# Altium schematic symbol library WR-WTB_1.25mm.SchLib: 46 symbols
Pins are listed as number, name and electrical type; pins without a type are passive.

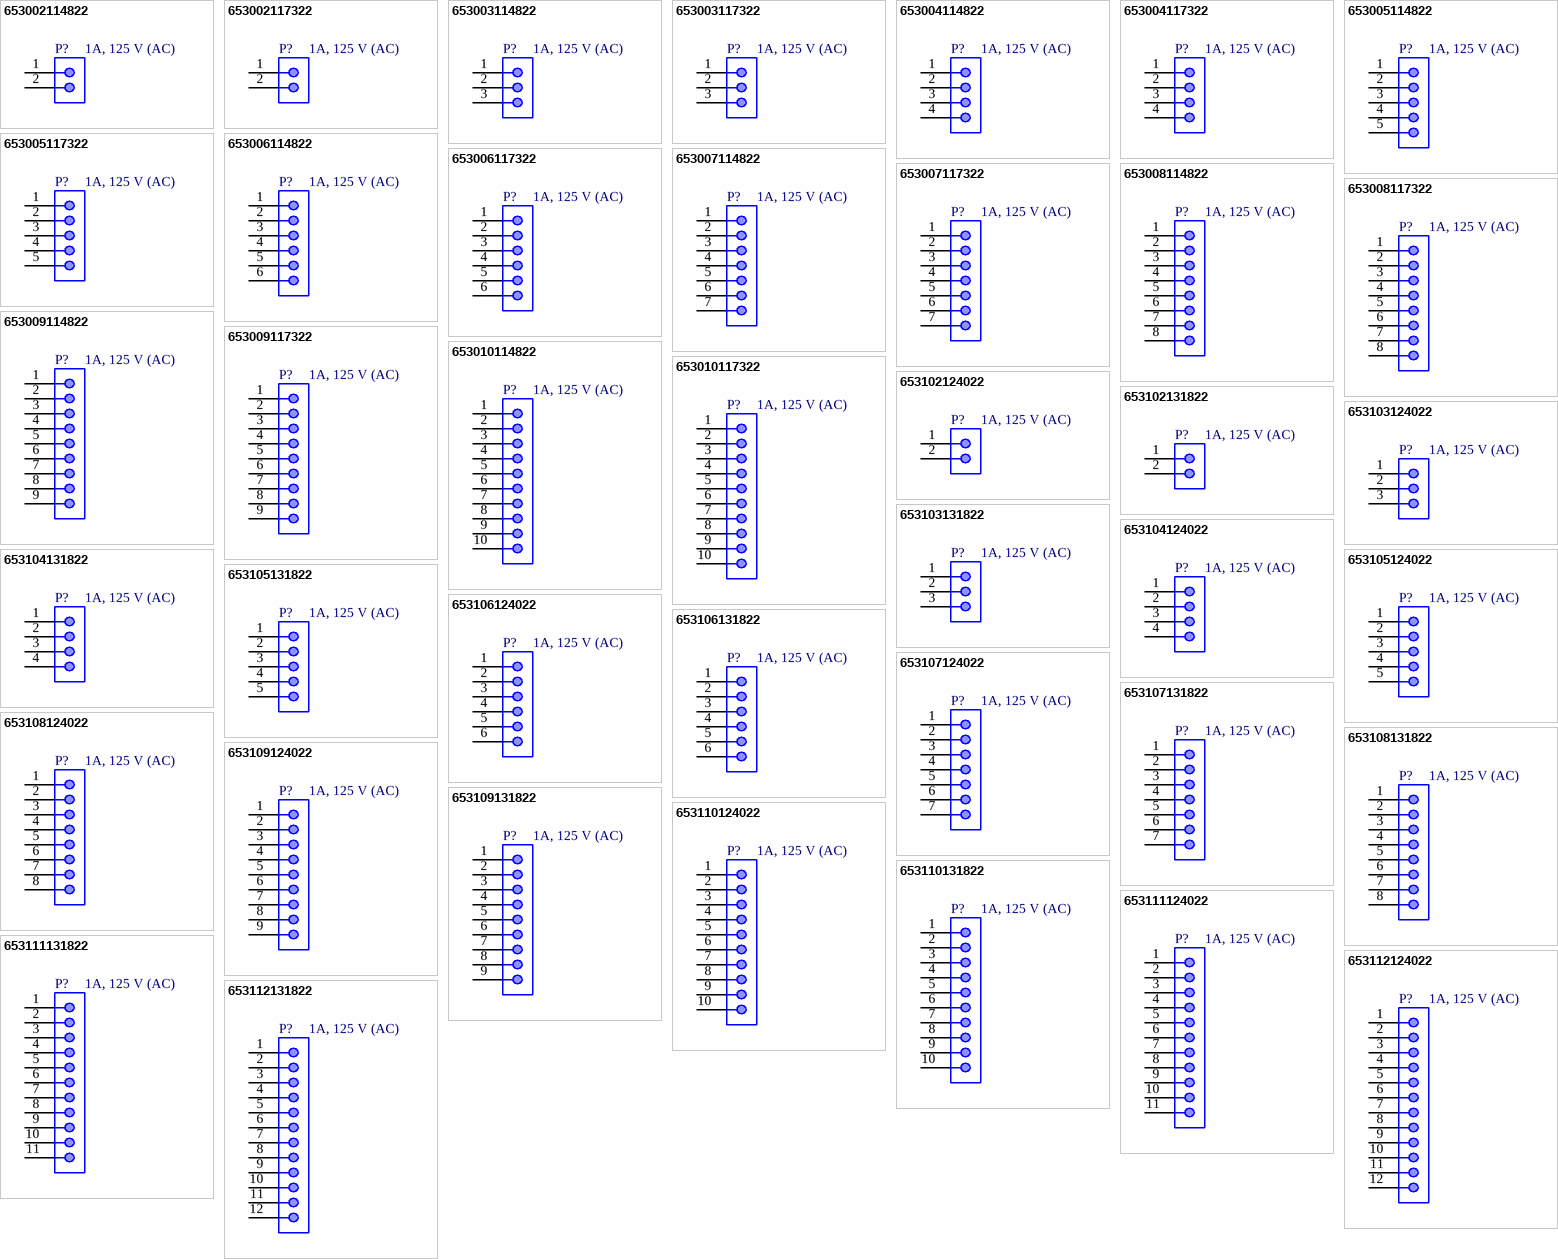
[diagram p0: symbols 653002114822 to 653112131822]

## 653002114822
designator P?, comment 1A, 125 V (AC)
WR-WTB THT Male Vertical Shrouded Header, pitch 1.25mm, 2p; Manufacturer: Wurth Elektronik; Manufacturer Part Number: 653002114822; Pin Number: 2; Contact Resistance: 20mOhm; Withstanding Voltage: 250VAC; Working Voltage: 125VAC; ComponentLink1Description: Datasheet; ComponentLink1URL: https://www.we-online.com/catalog/datasheet/653002114822.pdf; Pitch: 1.25mm; Packaging: Bag; Gender: Male; Type: Vertical; Rated Current: 1A; Supplier 1 URL: N/A; Supplier 2 URL: N/A; Supplier 3 URL: N/A; Value: 1A, 125 V (AC); LCSC Part #: N/A; Mount: THT; Operating Temperature Max: + 85 C; Operating Temperature Min: - 40 C; Package / Case: 2; Supplier 1: Mouser; Supplier 1 Part Number: N/A; Supplier 2: Digi-Key; Supplier 2 Part Number: N/A; Supplier 3: thegioiic; Supplier 3 Part Number: N/A
footprint 653002114822
pins: 1, 2

## 653002117322
designator P?, comment 1A, 125 V (AC)
WR-WTB THT Male Horizontal Shrouded Header, pitch 1.25mm, 2p; Manufacturer: Wurth Elektronik; Manufacturer Part Number: 653002117322; Pin Number: 2; Contact Resistance: 20mOhm; Withstanding Voltage: 250VAC; Working Voltage: 125VAC; ComponentLink1Description: Datasheet; ComponentLink1URL: https://www.we-online.com/catalog/datasheet/653002117322.pdf; Pitch: 1.25mm; Packaging: Tube; Gender: Male; Type: Horizontal; Rated Current: 1A; Supplier 1 URL: N/A; Supplier 2 URL: N/A; Supplier 3 URL: N/A; Value: 1A, 125 V (AC); LCSC Part #: N/A; Mount: THT; Operating Temperature Max: + 85 C; Operating Temperature Min: - 40 C; Package / Case: 2; Supplier 1: Mouser; Supplier 1 Part Number: N/A; Supplier 2: Digi-Key; Supplier 2 Part Number: N/A; Supplier 3: thegioiic; Supplier 3 Part Number: N/A
footprint 653002117322
pins: 1, 2

## 653003114822
designator P?, comment 1A, 125 V (AC)
WR-WTB THT Male Vertical Shrouded Header, pitch 1.25mm, 3p; Manufacturer: Wurth Elektronik; Manufacturer Part Number: 653003114822; Pin Number: 3; Contact Resistance: 20mOhm; Withstanding Voltage: 250VAC; Working Voltage: 125VAC; ComponentLink1Description: Datasheet; ComponentLink1URL: https://www.we-online.com/catalog/datasheet/653003114822.pdf; Pitch: 1.25mm; Packaging: Bag; Gender: Male; Type: Vertical; Rated Current: 1A; Supplier 1 URL: N/A; Supplier 2 URL: N/A; Supplier 3 URL: N/A; Value: 1A, 125 V (AC); LCSC Part #: N/A; Mount: THT; Operating Temperature Max: + 85 C; Operating Temperature Min: - 40 C; Package / Case: 3; Supplier 1: Mouser; Supplier 1 Part Number: N/A; Supplier 2: Digi-Key; Supplier 2 Part Number: N/A; Supplier 3: thegioiic; Supplier 3 Part Number: N/A
footprint 653003114822
pins: 1, 2, 3

## 653003117322
designator P?, comment 1A, 125 V (AC)
WR-WTB THT Male Horizontal Shrouded Header, pitch 1.25mm, 3p; Manufacturer: Wurth Elektronik; Manufacturer Part Number: 653003117322; Pin Number: 3; Contact Resistance: 20mOhm; Withstanding Voltage: 250VAC; Working Voltage: 125VAC; ComponentLink1Description: Datasheet; ComponentLink1URL: https://www.we-online.com/catalog/datasheet/653003117322.pdf; Pitch: 1.25mm; Packaging: Tube; Gender: Male; Type: Horizontal; Rated Current: 1A; Supplier 1 URL: N/A; Supplier 2 URL: N/A; Supplier 3 URL: N/A; Value: 1A, 125 V (AC); LCSC Part #: N/A; Mount: THT; Operating Temperature Max: + 85 C; Operating Temperature Min: - 40 C; Package / Case: 3; Supplier 1: Mouser; Supplier 1 Part Number: N/A; Supplier 2: Digi-Key; Supplier 2 Part Number: N/A; Supplier 3: thegioiic; Supplier 3 Part Number: N/A
footprint 653003117322
pins: 1, 2, 3

## 653004114822
designator P?, comment 1A, 125 V (AC)
WR-WTB THT Male Vertical Shrouded Header, pitch 1.25mm, 4p; Manufacturer: Wurth Elektronik; Manufacturer Part Number: 653004114822; Pin Number: 4; Contact Resistance: 20mOhm; Withstanding Voltage: 250VAC; Working Voltage: 125VAC; ComponentLink1Description: Datasheet; ComponentLink1URL: https://www.we-online.com/catalog/datasheet/653004114822.pdf; Pitch: 1.25mm; Packaging: Tube; Gender: Male; Type: Vertical; Rated Current: 1A; Supplier 1 URL: N/A; Supplier 2 URL: N/A; Supplier 3 URL: N/A; Value: 1A, 125 V (AC); LCSC Part #: N/A; Mount: THT; Operating Temperature Max: + 85 C; Operating Temperature Min: - 40 C; Package / Case: 4; Supplier 1: Mouser; Supplier 1 Part Number: N/A; Supplier 2: Digi-Key; Supplier 2 Part Number: N/A; Supplier 3: thegioiic; Supplier 3 Part Number: N/A
footprint 653004114822
pins: 1, 2, 3, 4

## 653004117322
designator P?, comment 1A, 125 V (AC)
WR-WTB THT Male Horizontal Shrouded Header, pitch 1.25mm, 4p; Manufacturer: Wurth Elektronik; Manufacturer Part Number: 653004117322; Pin Number: 4; Contact Resistance: 20mOhm; Withstanding Voltage: 250VAC; Working Voltage: 125VAC; ComponentLink1Description: Datasheet; ComponentLink1URL: https://www.we-online.com/catalog/datasheet/653004117322.pdf; Pitch: 1.25mm; Packaging: Tube; Gender: Male; Type: Horizontal; Rated Current: 1A; Supplier 1 URL: N/A; Supplier 2 URL: N/A; Supplier 3 URL: N/A; Value: 1A, 125 V (AC); LCSC Part #: N/A; Mount: THT; Operating Temperature Max: + 85 C; Operating Temperature Min: - 40 C; Package / Case: 4; Supplier 1: Mouser; Supplier 1 Part Number: N/A; Supplier 2: Digi-Key; Supplier 2 Part Number: N/A; Supplier 3: thegioiic; Supplier 3 Part Number: N/A
footprint 653004117322
pins: 1, 2, 3, 4

## 653005114822
designator P?, comment 1A, 125 V (AC)
WR-WTB THT Male Vertical Shrouded Header, pitch 1.25mm, 5p; Manufacturer: Wurth Elektronik; Manufacturer Part Number: 653005114822; Pin Number: 5; Contact Resistance: 20mOhm; Withstanding Voltage: 250VAC; Working Voltage: 125VAC; ComponentLink1Description: Datasheet; ComponentLink1URL: https://www.we-online.com/catalog/datasheet/653005114822.pdf; Pitch: 1.25mm; Packaging: Tube; Gender: Male; Type: Vertical; Rated Current: 1A; Supplier 1 URL: N/A; Supplier 2 URL: N/A; Supplier 3 URL: N/A; Value: 1A, 125 V (AC); LCSC Part #: N/A; Mount: THT; Operating Temperature Max: + 85 C; Operating Temperature Min: - 40 C; Package / Case: 5; Supplier 1: Mouser; Supplier 1 Part Number: N/A; Supplier 2: Digi-Key; Supplier 2 Part Number: N/A; Supplier 3: thegioiic; Supplier 3 Part Number: N/A
footprint 653005114822
pins: 1, 2, 3, 4, 5

## 653005117322
designator P?, comment 1A, 125 V (AC)
WR-WTB THT Male Horizontal Shrouded Header, pitch 1.25mm, 5p; Manufacturer: Wurth Elektronik; Manufacturer Part Number: 653005117322; Pin Number: 5; Contact Resistance: 20mOhm; Withstanding Voltage: 250VAC; Working Voltage: 125VAC; ComponentLink1Description: Datasheet; ComponentLink1URL: https://www.we-online.com/catalog/datasheet/653005117322.pdf; Pitch: 1.25mm; Packaging: Tube; Gender: Male; Type: Horizontal; Rated Current: 1A; Supplier 1 URL: N/A; Supplier 2 URL: N/A; Supplier 3 URL: N/A; Value: 1A, 125 V (AC); LCSC Part #: N/A; Mount: THT; Operating Temperature Max: + 85 C; Operating Temperature Min: - 40 C; Package / Case: 5; Supplier 1: Mouser; Supplier 1 Part Number: N/A; Supplier 2: Digi-Key; Supplier 2 Part Number: N/A; Supplier 3: thegioiic; Supplier 3 Part Number: N/A
footprint 653005117322
pins: 1, 2, 3, 4, 5

## 653006114822
designator P?, comment 1A, 125 V (AC)
WR-WTB THT Male Vertical Shrouded Header, pitch 1.25mm, 6p; Manufacturer: Wurth Elektronik; Manufacturer Part Number: 653006114822; Pin Number: 6; Contact Resistance: 20mOhm; Withstanding Voltage: 250VAC; Working Voltage: 125VAC; ComponentLink1Description: Datasheet; ComponentLink1URL: https://www.we-online.com/catalog/datasheet/653006114822.pdf; Pitch: 1.25mm; Packaging: Tube; Gender: Male; Type: Vertical; Rated Current: 1A; Supplier 1 URL: N/A; Supplier 2 URL: N/A; Supplier 3 URL: N/A; Value: 1A, 125 V (AC); LCSC Part #: N/A; Mount: THT; Operating Temperature Max: + 85 C; Operating Temperature Min: - 40 C; Package / Case: 6; Supplier 1: Mouser; Supplier 1 Part Number: N/A; Supplier 2: Digi-Key; Supplier 2 Part Number: N/A; Supplier 3: thegioiic; Supplier 3 Part Number: N/A
footprint 653006114822
pins: 1, 2, 3, 4, 5, 6

## 653006117322
designator P?, comment 1A, 125 V (AC)
WR-WTB THT Male Horizontal Shrouded Header, pitch 1.25mm, 6p; Manufacturer: Wurth Elektronik; Manufacturer Part Number: 653006117322; Pin Number: 6; Contact Resistance: 20mOhm; Withstanding Voltage: 250VAC; Working Voltage: 125VAC; ComponentLink1Description: Datasheet; ComponentLink1URL: https://www.we-online.com/catalog/datasheet/653006117322.pdf; Pitch: 1.25mm; Packaging: Tube; Gender: Male; Type: Horizontal; Rated Current: 1A; Supplier 1 URL: N/A; Supplier 2 URL: N/A; Supplier 3 URL: N/A; Value: 1A, 125 V (AC); LCSC Part #: N/A; Mount: THT; Operating Temperature Max: + 85 C; Operating Temperature Min: - 40 C; Package / Case: 6; Supplier 1: Mouser; Supplier 1 Part Number: N/A; Supplier 2: Digi-Key; Supplier 2 Part Number: N/A; Supplier 3: thegioiic; Supplier 3 Part Number: N/A
footprint 653006117322
pins: 1, 2, 3, 4, 5, 6

## 653007114822
designator P?, comment 1A, 125 V (AC)
WR-WTB THT Male Vertical Shrouded Header, pitch 1.25mm, 7p; Manufacturer: Wurth Elektronik; Manufacturer Part Number: 653007114822; Pin Number: 7; Contact Resistance: 20mOhm; Withstanding Voltage: 250VAC; Working Voltage: 125VAC; ComponentLink1Description: Datasheet; ComponentLink1URL: https://www.we-online.com/catalog/datasheet/653007114822.pdf; Pitch: 1.25mm; Packaging: Tube; Gender: Male; Type: Vertical; Rated Current: 1A; Supplier 1 URL: N/A; Supplier 2 URL: N/A; Supplier 3 URL: N/A; Value: 1A, 125 V (AC); LCSC Part #: N/A; Mount: THT; Operating Temperature Max: + 85 C; Operating Temperature Min: - 40 C; Package / Case: 7; Supplier 1: Mouser; Supplier 1 Part Number: N/A; Supplier 2: Digi-Key; Supplier 2 Part Number: N/A; Supplier 3: thegioiic; Supplier 3 Part Number: N/A
footprint 653007114822
pins: 1, 2, 3, 4, 5, 6, 7

## 653007117322
designator P?, comment 1A, 125 V (AC)
WR-WTB THT Male Horizontal Shrouded Header, pitch 1.25mm, 7p; Manufacturer: Wurth Elektronik; Manufacturer Part Number: 653007117322; Pin Number: 7; Contact Resistance: 20mOhm; Withstanding Voltage: 250VAC; Working Voltage: 125VAC; ComponentLink1Description: Datasheet; ComponentLink1URL: https://www.we-online.com/catalog/datasheet/653007117322.pdf; Pitch: 1.25mm; Packaging: Tube; Gender: Male; Type: Horizontal; Rated Current: 1A; Supplier 1 URL: N/A; Supplier 2 URL: N/A; Supplier 3 URL: N/A; Value: 1A, 125 V (AC); LCSC Part #: N/A; Mount: THT; Operating Temperature Max: + 85 C; Operating Temperature Min: - 40 C; Package / Case: 7; Supplier 1: Mouser; Supplier 1 Part Number: N/A; Supplier 2: Digi-Key; Supplier 2 Part Number: N/A; Supplier 3: thegioiic; Supplier 3 Part Number: N/A
footprint 653007117322
pins: 1, 2, 3, 4, 5, 6, 7

## 653008114822
designator P?, comment 1A, 125 V (AC)
WR-WTB THT Male Vertical Shrouded Header, pitch 1.25mm, 8p; Manufacturer: Wurth Elektronik; Manufacturer Part Number: 653008114822; Pin Number: 8; Contact Resistance: 20mOhm; Withstanding Voltage: 250VAC; Working Voltage: 125VAC; ComponentLink1Description: Datasheet; ComponentLink1URL: https://www.we-online.com/catalog/datasheet/653008114822.pdf; Pitch: 1.25mm; Packaging: Tube; Gender: Male; Type: Vertical; Rated Current: 1A; Supplier 1 URL: N/A; Supplier 2 URL: N/A; Supplier 3 URL: N/A; Value: 1A, 125 V (AC); LCSC Part #: N/A; Mount: THT; Operating Temperature Max: + 85 C; Operating Temperature Min: - 40 C; Package / Case: 8; Supplier 1: Mouser; Supplier 1 Part Number: N/A; Supplier 2: Digi-Key; Supplier 2 Part Number: N/A; Supplier 3: thegioiic; Supplier 3 Part Number: N/A
footprint 653008114822
pins: 1, 2, 3, 4, 5, 6, 7, 8

## 653008117322
designator P?, comment 1A, 125 V (AC)
WR-WTB THT Male Horizontal Shrouded Header, pitch 1.25mm, 8p; Manufacturer: Wurth Elektronik; Manufacturer Part Number: 653008117322; Pin Number: 8; Contact Resistance: 20mOhm; Withstanding Voltage: 250VAC; Working Voltage: 125VAC; ComponentLink1Description: Datasheet; ComponentLink1URL: https://www.we-online.com/catalog/datasheet/653008117322.pdf; Pitch: 1.25mm; Packaging: Tube; Gender: Male; Type: Horizontal; Rated Current: 1A; Supplier 1 URL: N/A; Supplier 2 URL: N/A; Supplier 3 URL: N/A; Value: 1A, 125 V (AC); LCSC Part #: N/A; Mount: THT; Operating Temperature Max: + 85 C; Operating Temperature Min: - 40 C; Package / Case: 8; Supplier 1: Mouser; Supplier 1 Part Number: N/A; Supplier 2: Digi-Key; Supplier 2 Part Number: N/A; Supplier 3: thegioiic; Supplier 3 Part Number: N/A
footprint 653008117322
pins: 1, 2, 3, 4, 5, 6, 7, 8

## 653009114822
designator P?, comment 1A, 125 V (AC)
WR-WTB THT Male Vertical Shrouded Header, pitch 1.25mm, 9p; Manufacturer: Wurth Elektronik; Manufacturer Part Number: 653009114822; Pin Number: 9; Contact Resistance: 20mOhm; Withstanding Voltage: 250VAC; Working Voltage: 125VAC; ComponentLink1Description: Datasheet; ComponentLink1URL: https://www.we-online.com/catalog/datasheet/653009114822.pdf; Pitch: 1.25mm; Packaging: Tube; Gender: Male; Type: Vertical; Rated Current: 1A; Supplier 1 URL: N/A; Supplier 2 URL: N/A; Supplier 3 URL: N/A; Value: 1A, 125 V (AC); LCSC Part #: N/A; Mount: THT; Operating Temperature Max: + 85 C; Operating Temperature Min: - 40 C; Package / Case: 9; Supplier 1: Mouser; Supplier 1 Part Number: N/A; Supplier 2: Digi-Key; Supplier 2 Part Number: N/A; Supplier 3: thegioiic; Supplier 3 Part Number: N/A
footprint 653009114822
pins: 1, 2, 3, 4, 5, 6, 7, 8, 9

## 653009117322
designator P?, comment 1A, 125 V (AC)
WR-WTB THT Male Horizontal Shrouded Header, pitch 1.25mm, 9p; Manufacturer: Wurth Elektronik; Manufacturer Part Number: 653009117322; Pin Number: 9; Contact Resistance: 20mOhm; Withstanding Voltage: 250VAC; Working Voltage: 125VAC; ComponentLink1Description: Datasheet; ComponentLink1URL: https://www.we-online.com/catalog/datasheet/653009117322.pdf; Pitch: 1.25mm; Packaging: Tube; Gender: Male; Type: Horizontal; Rated Current: 1A; Supplier 1 URL: N/A; Supplier 2 URL: N/A; Supplier 3 URL: N/A; Value: 1A, 125 V (AC); LCSC Part #: N/A; Mount: THT; Operating Temperature Max: + 85 C; Operating Temperature Min: - 40 C; Package / Case: 9; Supplier 1: Mouser; Supplier 1 Part Number: N/A; Supplier 2: Digi-Key; Supplier 2 Part Number: N/A; Supplier 3: thegioiic; Supplier 3 Part Number: N/A
footprint 653009117322
pins: 1, 2, 3, 4, 5, 6, 7, 8, 9

## 653010114822
designator P?, comment 1A, 125 V (AC)
WR-WTB THT Male Vertical Shrouded Header, pitch 1.25mm, 10p; Manufacturer: Wurth Elektronik; Manufacturer Part Number: 653010114822; Pin Number: 10; Contact Resistance: 20mOhm; Withstanding Voltage: 250VAC; Working Voltage: 125VAC; ComponentLink1Description: Datasheet; ComponentLink1URL: https://www.we-online.com/catalog/datasheet/653010114822.pdf; Pitch: 1.25mm; Packaging: Tube; Gender: Male; Type: Vertical; Rated Current: 1A; Supplier 1 URL: N/A; Supplier 2 URL: N/A; Supplier 3 URL: N/A; Value: 1A, 125 V (AC); LCSC Part #: N/A; Mount: THT; Operating Temperature Max: + 85 C; Operating Temperature Min: - 40 C; Package / Case: 10; Supplier 1: Mouser; Supplier 1 Part Number: N/A; Supplier 2: Digi-Key; Supplier 2 Part Number: N/A; Supplier 3: thegioiic; Supplier 3 Part Number: N/A
footprint 653010114822
pins: 1, 2, 3, 4, 5, 6, 7, 8, 9, 10

## 653010117322
designator P?, comment 1A, 125 V (AC)
WR-WTB THT Male Horizontal Shrouded Header, pitch 1.25mm, 10p; Manufacturer: Wurth Elektronik; Manufacturer Part Number: 653010117322; Pin Number: 10; Contact Resistance: 20mOhm; Withstanding Voltage: 250VAC; Working Voltage: 125VAC; ComponentLink1Description: Datasheet; ComponentLink1URL: https://www.we-online.com/catalog/datasheet/653010117322.pdf; Pitch: 1.25mm; Packaging: Tube; Gender: Male; Type: Horizontal; Rated Current: 1A; Supplier 1 URL: N/A; Supplier 2 URL: N/A; Supplier 3 URL: N/A; Value: 1A, 125 V (AC); LCSC Part #: N/A; Mount: THT; Operating Temperature Max: + 85 C; Operating Temperature Min: - 40 C; Package / Case: 10; Supplier 1: Mouser; Supplier 1 Part Number: N/A; Supplier 2: Digi-Key; Supplier 2 Part Number: N/A; Supplier 3: thegioiic; Supplier 3 Part Number: N/A
footprint 653010117322
pins: 1, 2, 3, 4, 5, 6, 7, 8, 9, 10

## 653102124022
designator P?, comment 1A, 125 V (AC)
WR-WTB SMT Male Vertical Shrouded Header, pitch 1.25mm, 2p; Manufacturer: Wurth Elektronik; Manufacturer Part Number: 653102124022; Pin Number: 2; Contact Resistance: 20mOhm; Withstanding Voltage: 250VAC; Working Voltage: 125VAC; ComponentLink1Description: Datasheet; ComponentLink1URL: https://www.we-online.com/catalog/datasheet/653102124022.pdf; Pitch: 1.25mm; Packaging: Tape and Reel; Gender: Male; Type: Vertical; Rated Current: 1A; Supplier 1 URL: https://www.mouser.vn/ProductDetail/Wurth-Elektronik/653102124022?qs=ZtY9WdtwX56vPOjwdiO2mQ%3D%3D; Supplier 2 URL: N/A; Supplier 3 URL: N/A; Value: 1A, 125 V (AC); LCSC Part #: N/A; Mount: SMD/SMT; Operating Temperature Max: + 85 C; Operating Temperature Min: - 40 C; Package / Case: 2; Supplier 1: Mouser; Supplier 1 Part Number: 710-653102124022; Supplier 2: Digi-Key; Supplier 2 Part Number: N/A; Supplier 3: thegioiic; Supplier 3 Part Number: N/A
footprint 653102124022
pins: 1, 2

## 653102131822
designator P?, comment 1A, 125 V (AC)
WR-WTB SMT Male Horizontal Shrouded Header, pitch 1.25mm, 2p; Manufacturer: Wurth Elektronik; Manufacturer Part Number: 653102131822; Pin Number: 2; Contact Resistance: 20mOhm; Withstanding Voltage: 250VAC; Working Voltage: 125VAC; ComponentLink1Description: Datasheet; ComponentLink1URL: https://www.we-online.com/catalog/datasheet/653102131822.pdf; Pitch: 1.25mm; Packaging: Tape and Reel; Gender: Male; Type: Horizontal; Rated Current: 1A; Supplier 1 URL: https://www.mouser.vn/ProductDetail/Wurth-Elektronik/653102131822?qs=ZtY9WdtwX54RPtmyAMWuJQ%3D%3D; Supplier 2 URL: N/A; Supplier 3 URL: N/A; Value: 1A, 125 V (AC); LCSC Part #: N/A; Mount: SMD/SMT; Operating Temperature Max: + 85 C; Operating Temperature Min: - 40 C; Package / Case: 2; Supplier 1: Mouser; Supplier 1 Part Number: 710-653102131822; Supplier 2: Digi-Key; Supplier 2 Part Number: N/A; Supplier 3: thegioiic; Supplier 3 Part Number: N/A
footprint 653102131822
pins: 1, 2

## 653103124022
designator P?, comment 1A, 125 V (AC)
WR-WTB SMT Male Vertical Shrouded Header, pitch 1.25mm, 3p; Manufacturer: Wurth Elektronik; Manufacturer Part Number: 653103124022; Pin Number: 3; Contact Resistance: 20mOhm; Withstanding Voltage: 250VAC; Working Voltage: 125VAC; ComponentLink1Description: Datasheet; ComponentLink1URL: https://www.we-online.com/catalog/datasheet/653103124022.pdf; Pitch: 1.25mm; Packaging: Tape and Reel; Gender: Male; Type: Vertical; Rated Current: 1A; Supplier 1 URL: https://www.mouser.vn/ProductDetail/Wurth-Elektronik/653102131822?qs=ZtY9WdtwX54RPtmyAMWuJQ%3D%3D; Supplier 2 URL: N/A; Supplier 3 URL: N/A; Value: 1A, 125 V (AC); LCSC Part #: N/A; Mount: SMD/SMT; Operating Temperature Max: + 85 C; Operating Temperature Min: - 40 C; Package / Case: 3; Supplier 1: Mouser; Supplier 1 Part Number: 710-653102131822; Supplier 2: Digi-Key; Supplier 2 Part Number: N/A; Supplier 3: thegioiic; Supplier 3 Part Number: N/A
footprint 653103124022
pins: 1, 2, 3

## 653103131822
designator P?, comment 1A, 125 V (AC)
WR-WTB SMT Male Horizontal Shrouded Header, pitch 1.25mm, 3p; Manufacturer: Wurth Elektronik; Manufacturer Part Number: 653103131822; Pin Number: 3; Contact Resistance: 20mOhm; Withstanding Voltage: 250VAC; Working Voltage: 125VAC; ComponentLink1Description: Datasheet; ComponentLink1URL: https://www.we-online.com/catalog/datasheet/653103131822.pdf; Pitch: 1.25mm; Packaging: Tape and Reel; Gender: Male; Type: Horizontal; Rated Current: 1A; Supplier 1 URL: https://www.mouser.vn/ProductDetail/Wurth-Elektronik/653103131822?qs=ZtY9WdtwX56A20KaUVdM9A%3D%3D; Supplier 2 URL: N/A; Supplier 3 URL: N/A; Value: 1A, 125 V (AC); LCSC Part #: N/A; Mount: SMD/SMT; Operating Temperature Max: + 85 C; Operating Temperature Min: - 40 C; Package / Case: 3; Supplier 1: Mouser; Supplier 1 Part Number: 710-653103131822; Supplier 2: Digi-Key; Supplier 2 Part Number: N/A; Supplier 3: thegioiic; Supplier 3 Part Number: N/A
footprint 653103131822
pins: 1, 2, 3

## 653104124022
designator P?, comment 1A, 125 V (AC)
WR-WTB SMT Male Vertical Shrouded Header, pitch 1.25mm, 4p; Manufacturer: Wurth Elektronik; Manufacturer Part Number: 653104124022; Pin Number: 4; Contact Resistance: 20mOhm; Withstanding Voltage: 250VAC; Working Voltage: 125VAC; ComponentLink1Description: Datasheet; ComponentLink1URL: https://www.we-online.com/catalog/datasheet/653104124022.pdf; Pitch: 1.25mm; Packaging: Tape and Reel; Gender: Male; Type: Vertical; Rated Current: 1A; Supplier 1 URL: https://www.mouser.vn/ProductDetail/Wurth-Elektronik/653104124022?qs=ZtY9WdtwX54BB0pzGEjzEA%3D%3D; Supplier 2 URL: N/A; Supplier 3 URL: N/A; Value: 1A, 125 V (AC); LCSC Part #: N/A; Mount: SMD/SMT; Operating Temperature Max: + 85 C; Operating Temperature Min: - 40 C; Package / Case: 4; Supplier 1: Mouser; Supplier 1 Part Number: 710-653104124022; Supplier 2: Digi-Key; Supplier 2 Part Number: N/A; Supplier 3: thegioiic; Supplier 3 Part Number: N/A
footprint 653104124022
pins: 1, 2, 3, 4

## 653104131822
designator P?, comment 1A, 125 V (AC)
WR-WTB SMT Male Horizontal Shrouded Header, pitch 1.25mm, 4p; Manufacturer: Wurth Elektronik; Manufacturer Part Number: 653104131822; Pin Number: 4; Contact Resistance: 20mOhm; Withstanding Voltage: 250VAC; Working Voltage: 125VAC; ComponentLink1Description: Datasheet; ComponentLink1URL: https://www.we-online.com/catalog/datasheet/653104131822.pdf; Pitch: 1.25mm; Packaging: Tape and Reel; Gender: Male; Type: Horizontal; Rated Current: 1A; Supplier 1 URL: https://www.mouser.vn/ProductDetail/Wurth-Elektronik/653104131822?qs=ZtY9WdtwX57W0BSZmDdu3g%3D%3D; Supplier 2 URL: N/A; Supplier 3 URL: N/A; Value: 1A, 125 V (AC); LCSC Part #: N/A; Mount: SMD/SMT; Operating Temperature Max: + 85 C; Operating Temperature Min: - 40 C; Package / Case: 4; Supplier 1: Mouser; Supplier 1 Part Number: 710-653104131822; Supplier 2: Digi-Key; Supplier 2 Part Number: N/A; Supplier 3: thegioiic; Supplier 3 Part Number: N/A
footprint 653104131822
pins: 1, 2, 3, 4

## 653105124022
designator P?, comment 1A, 125 V (AC)
WR-WTB SMT Male Vertical Shrouded Header, pitch 1.25mm, 5p; Manufacturer: Wurth Elektronik; Manufacturer Part Number: 653105124022; Pin Number: 5; Contact Resistance: 20mOhm; Withstanding Voltage: 250VAC; Working Voltage: 125VAC; ComponentLink1Description: Datasheet; ComponentLink1URL: https://www.we-online.com/catalog/datasheet/653105124022.pdf; Pitch: 1.25mm; Packaging: Tape and Reel; Gender: Male; Type: Vertical; Rated Current: 1A; Supplier 1 URL: https://www.mouser.vn/ProductDetail/Wurth-Elektronik/653105124022?qs=ZtY9WdtwX56Sqe5%252B2IpjXw%3D%3D; Supplier 2 URL: N/A; Supplier 3 URL: N/A; Value: 1A, 125 V (AC); LCSC Part #: N/A; Mount: SMD/SMT; Operating Temperature Max: + 85 C; Operating Temperature Min: - 40 C; Package / Case: 5; Supplier 1: Mouser; Supplier 1 Part Number: 710-653105124022; Supplier 2: Digi-Key; Supplier 2 Part Number: N/A; Supplier 3: thegioiic; Supplier 3 Part Number: N/A
footprint 653105124022
pins: 1, 2, 3, 4, 5

## 653105131822
designator P?, comment 1A, 125 V (AC)
WR-WTB SMT Male Horizontal Shrouded Header, pitch 1.25mm, 5p; Manufacturer: Wurth Elektronik; Manufacturer Part Number: 653105131822; Pin Number: 5; Contact Resistance: 20mOhm; Withstanding Voltage: 250VAC; Working Voltage: 125VAC; ComponentLink1Description: Datasheet; ComponentLink1URL: https://www.we-online.com/catalog/datasheet/653105131822.pdf; Pitch: 1.25mm; Packaging: Tape and Reel; Gender: Male; Type: Horizontal; Rated Current: 1A; Supplier 1 URL: https://www.mouser.vn/ProductDetail/Wurth-Elektronik/653105131822?qs=ZtY9WdtwX578VcSuOXi5Bg%3D%3D; Supplier 2 URL: N/A; Supplier 3 URL: N/A; Value: 1A, 125 V (AC); LCSC Part #: N/A; Mount: SMD/SMT; Operating Temperature Max: + 85 C; Operating Temperature Min: - 40 C; Package / Case: 5; Supplier 1: Mouser; Supplier 1 Part Number: 710-653105131822; Supplier 2: Digi-Key; Supplier 2 Part Number: N/A; Supplier 3: thegioiic; Supplier 3 Part Number: N/A
footprint 653105131822
pins: 1, 2, 3, 4, 5

## 653106124022
designator P?, comment 1A, 125 V (AC)
WR-WTB SMT Male Vertical Shrouded Header, pitch 1.25mm, 6p; Manufacturer: Wurth Elektronik; Manufacturer Part Number: 653106124022; Pin Number: 6; Contact Resistance: 20mOhm; Withstanding Voltage: 250VAC; Working Voltage: 125VAC; ComponentLink1Description: Datasheet; ComponentLink1URL: https://www.we-online.com/catalog/datasheet/653106124022.pdf; Pitch: 1.25mm; Packaging: Tape and Reel; Gender: Male; Type: Vertical; Rated Current: 1A; Supplier 1 URL: N/A; Supplier 2 URL: N/A; Supplier 3 URL: N/A; Value: 1A, 125 V (AC); LCSC Part #: N/A; Mount: SMD/SMT; Operating Temperature Max: + 85 C; Operating Temperature Min: - 40 C; Package / Case: 6; Supplier 1: Mouser; Supplier 1 Part Number: N/A; Supplier 2: Digi-Key; Supplier 2 Part Number: N/A; Supplier 3: thegioiic; Supplier 3 Part Number: N/A
footprint 653106124022
pins: 1, 2, 3, 4, 5, 6

## 653106131822
designator P?, comment 1A, 125 V (AC)
WR-WTB SMT Male Horizontal Shrouded Header, pitch 1.25mm, 6p; Manufacturer: Wurth Elektronik; Manufacturer Part Number: 653106131822; Pin Number: 6; Contact Resistance: 20mOhm; Withstanding Voltage: 250VAC; Working Voltage: 125VAC; ComponentLink1Description: Datasheet; ComponentLink1URL: https://www.we-online.com/catalog/datasheet/653106131822.pdf; Pitch: 1.25mm; Packaging: Tape and Reel; Gender: Male; Type: Horizontal; Rated Current: 1A; Supplier 1 URL: N/A; Supplier 2 URL: N/A; Supplier 3 URL: N/A; Value: 1A, 125 V (AC); LCSC Part #: N/A; Mount: SMD/SMT; Operating Temperature Max: + 85 C; Operating Temperature Min: - 40 C; Package / Case: 6; Supplier 1: Mouser; Supplier 1 Part Number: N/A; Supplier 2: Digi-Key; Supplier 2 Part Number: N/A; Supplier 3: thegioiic; Supplier 3 Part Number: N/A
footprint 653106131822
pins: 1, 2, 3, 4, 5, 6

## 653107124022
designator P?, comment 1A, 125 V (AC)
WR-WTB SMT Male Vertical Shrouded Header, pitch 1.25mm, 7p; Manufacturer: Wurth Elektronik; Manufacturer Part Number: 653107124022; Pin Number: 7; Contact Resistance: 20mOhm; Withstanding Voltage: 250VAC; Working Voltage: 125VAC; ComponentLink1Description: Datasheet; ComponentLink1URL: https://www.we-online.com/catalog/datasheet/653107124022.pdf; Pitch: 1.25mm; Packaging: Tape and Reel; Gender: Male; Type: Vertical; Rated Current: 1A; Supplier 1 URL: N/A; Supplier 2 URL: N/A; Supplier 3 URL: N/A; Value: 1A, 125 V (AC); LCSC Part #: N/A; Mount: SMD/SMT; Operating Temperature Max: + 85 C; Operating Temperature Min: - 40 C; Package / Case: 7; Supplier 1: Mouser; Supplier 1 Part Number: N/A; Supplier 2: Digi-Key; Supplier 2 Part Number: N/A; Supplier 3: thegioiic; Supplier 3 Part Number: N/A
footprint 653107124022
pins: 1, 2, 3, 4, 5, 6, 7

## 653107131822
designator P?, comment 1A, 125 V (AC)
WR-WTB SMT Male Horizontal Shrouded Header, pitch 1.25mm, 7p; Manufacturer: Wurth Elektronik; Manufacturer Part Number: 653107131822; Pin Number: 7; Contact Resistance: 20mOhm; Withstanding Voltage: 250VAC; Working Voltage: 125VAC; ComponentLink1Description: Datasheet; ComponentLink1URL: https://www.we-online.com/catalog/datasheet/653107131822.pdf; Pitch: 1.25mm; Packaging: Tape and Reel; Gender: Male; Type: Horizontal; Rated Current: 1A; Supplier 1 URL: N/A; Supplier 2 URL: N/A; Supplier 3 URL: N/A; Value: 1A, 125 V (AC); LCSC Part #: N/A; Mount: SMD/SMT; Operating Temperature Max: + 85 C; Operating Temperature Min: - 40 C; Package / Case: 7; Supplier 1: Mouser; Supplier 1 Part Number: N/A; Supplier 2: Digi-Key; Supplier 2 Part Number: N/A; Supplier 3: thegioiic; Supplier 3 Part Number: N/A
footprint 653107131822
pins: 1, 2, 3, 4, 5, 6, 7

## 653108124022
designator P?, comment 1A, 125 V (AC)
WR-WTB SMT Male Vertical Shrouded Header, pitch 1.25mm, 8p; Manufacturer: Wurth Elektronik; Manufacturer Part Number: 653108124022; Pin Number: 8; Contact Resistance: 20mOhm; Withstanding Voltage: 250VAC; Working Voltage: 125VAC; ComponentLink1Description: Datasheet; ComponentLink1URL: https://www.we-online.com/catalog/datasheet/653108124022.pdf; Pitch: 1.25mm; Packaging: Tape and Reel; Gender: Male; Type: Vertical; Rated Current: 1A; Supplier 1 URL: N/A; Supplier 2 URL: N/A; Supplier 3 URL: N/A; Value: 1A, 125 V (AC); LCSC Part #: N/A; Mount: SMD/SMT; Operating Temperature Max: + 85 C; Operating Temperature Min: - 40 C; Package / Case: 8; Supplier 1: Mouser; Supplier 1 Part Number: N/A; Supplier 2: Digi-Key; Supplier 2 Part Number: N/A; Supplier 3: thegioiic; Supplier 3 Part Number: N/A
footprint 653108124022
pins: 1, 2, 3, 4, 5, 6, 7, 8

## 653108131822
designator P?, comment 1A, 125 V (AC)
WR-WTB SMT Male Horizontal Shrouded Header, pitch 1.25mm, 8p; Manufacturer: Wurth Elektronik; Manufacturer Part Number: 653108131822; Pin Number: 8; Contact Resistance: 20mOhm; Withstanding Voltage: 250VAC; Working Voltage: 125VAC; ComponentLink1Description: Datasheet; ComponentLink1URL: https://www.we-online.com/catalog/datasheet/653108131822.pdf; Pitch: 1.25mm; Packaging: Tape and Reel; Gender: Male; Type: Horizontal; Rated Current: 1A; Supplier 1 URL: N/A; Supplier 2 URL: N/A; Supplier 3 URL: N/A; Value: 1A, 125 V (AC); LCSC Part #: N/A; Mount: SMD/SMT; Operating Temperature Max: + 85 C; Operating Temperature Min: - 40 C; Package / Case: 8; Supplier 1: Mouser; Supplier 1 Part Number: N/A; Supplier 2: Digi-Key; Supplier 2 Part Number: N/A; Supplier 3: thegioiic; Supplier 3 Part Number: N/A
footprint 653108131822
pins: 1, 2, 3, 4, 5, 6, 7, 8

## 653109124022
designator P?, comment 1A, 125 V (AC)
WR-WTB SMT Male Vertical Shrouded Header, pitch 1.25mm, 9p; Manufacturer: Wurth Elektronik; Manufacturer Part Number: 653109124022; Pin Number: 9; Contact Resistance: 20mOhm; Withstanding Voltage: 250VAC; Working Voltage: 125VAC; ComponentLink1Description: Datasheet; ComponentLink1URL: https://www.we-online.com/catalog/datasheet/653109124022.pdf; Pitch: 1.25mm; Packaging: Tape and Reel; Gender: Male; Type: Vertical; Rated Current: 1A; Supplier 1 URL: N/A; Supplier 2 URL: N/A; Supplier 3 URL: N/A; Value: 1A, 125 V (AC); LCSC Part #: N/A; Mount: SMD/SMT; Operating Temperature Max: + 85 C; Operating Temperature Min: - 40 C; Package / Case: 9; Supplier 1: Mouser; Supplier 1 Part Number: N/A; Supplier 2: Digi-Key; Supplier 2 Part Number: N/A; Supplier 3: thegioiic; Supplier 3 Part Number: N/A
footprint 653109124022
pins: 1, 2, 3, 4, 5, 6, 7, 8, 9

## 653109131822
designator P?, comment 1A, 125 V (AC)
WR-WTB SMT Male Horizontal Shrouded Header, pitch 1.25mm, 9p; Manufacturer: Wurth Elektronik; Manufacturer Part Number: 653109131822; Pin Number: 9; Contact Resistance: 20mOhm; Withstanding Voltage: 250VAC; Working Voltage: 125VAC; ComponentLink1Description: Datasheet; ComponentLink1URL: https://www.we-online.com/catalog/datasheet/653109131822.pdf; Pitch: 1.25mm; Packaging: Tape and Reel; Gender: Male; Type: Horizontal; Rated Current: 1A; Supplier 1 URL: N/A; Supplier 2 URL: N/A; Supplier 3 URL: N/A; Value: 1A, 125 V (AC); LCSC Part #: N/A; Mount: SMD/SMT; Operating Temperature Max: + 85 C; Operating Temperature Min: - 40 C; Package / Case: 9; Supplier 1: Mouser; Supplier 1 Part Number: N/A; Supplier 2: Digi-Key; Supplier 2 Part Number: N/A; Supplier 3: thegioiic; Supplier 3 Part Number: N/A
footprint 653109131822
pins: 1, 2, 3, 4, 5, 6, 7, 8, 9

## 653110124022
designator P?, comment 1A, 125 V (AC)
WR-WTB SMT Male Vertical Shrouded Header, pitch 1.25mm, 10p; Manufacturer: Wurth Elektronik; Manufacturer Part Number: 653110124022; Pin Number: 10; Contact Resistance: 20mOhm; Withstanding Voltage: 250VAC; Working Voltage: 125VAC; ComponentLink1Description: Datasheet; ComponentLink1URL: https://www.we-online.com/catalog/datasheet/653110124022.pdf; Pitch: 1.25mm; Packaging: Tape and Reel; Gender: Male; Type: Vertical; Rated Current: 1A; Supplier 1 URL: N/A; Supplier 2 URL: N/A; Supplier 3 URL: N/A; Value: 1A, 125 V (AC); LCSC Part #: N/A; Mount: SMD/SMT; Operating Temperature Max: + 85 C; Operating Temperature Min: - 40 C; Package / Case: 10; Supplier 1: Mouser; Supplier 1 Part Number: N/A; Supplier 2: Digi-Key; Supplier 2 Part Number: N/A; Supplier 3: thegioiic; Supplier 3 Part Number: N/A
footprint 653110124022
pins: 1, 2, 3, 4, 5, 6, 7, 8, 9, 10

## 653110131822
designator P?, comment 1A, 125 V (AC)
WR-WTB SMT Male Horizontal Shrouded Header, pitch 1.25mm, 10p; Manufacturer: Wurth Elektronik; Manufacturer Part Number: 653110131822; Pin Number: 10; Contact Resistance: 20mOhm; Withstanding Voltage: 250VAC; Working Voltage: 125VAC; ComponentLink1Description: Datasheet; ComponentLink1URL: https://www.we-online.com/catalog/datasheet/653110131822.pdf; Pitch: 1.25mm; Packaging: Tape and Reel; Gender: Male; Type: Horizontal; Rated Current: 1A; Supplier 1 URL: N/A; Supplier 2 URL: N/A; Supplier 3 URL: N/A; Value: 1A, 125 V (AC); LCSC Part #: N/A; Mount: SMD/SMT; Operating Temperature Max: + 85 C; Operating Temperature Min: - 40 C; Package / Case: 10; Supplier 1: Mouser; Supplier 1 Part Number: N/A; Supplier 2: Digi-Key; Supplier 2 Part Number: N/A; Supplier 3: thegioiic; Supplier 3 Part Number: N/A
footprint 653110131822
pins: 1, 2, 3, 4, 5, 6, 7, 8, 9, 10

## 653111124022
designator P?, comment 1A, 125 V (AC)
WR-WTB SMT Male Vertical Shrouded Header, pitch 1.25mm, 11p; Manufacturer: Wurth Elektronik; Manufacturer Part Number: 653111124022; Pin Number: 11; Contact Resistance: 20mOhm; Withstanding Voltage: 250VAC; Working Voltage: 125VAC; ComponentLink1Description: Datasheet; ComponentLink1URL: https://www.we-online.com/catalog/datasheet/653111124022.pdf; Pitch: 1.25mm; Packaging: Tape and Reel; Gender: Male; Type: Vertical; Rated Current: 1A; Supplier 1 URL: N/A; Supplier 2 URL: N/A; Supplier 3 URL: N/A; Value: 1A, 125 V (AC); LCSC Part #: N/A; Mount: SMD/SMT; Operating Temperature Max: + 85 C; Operating Temperature Min: - 40 C; Package / Case: 11; Supplier 1: Mouser; Supplier 1 Part Number: N/A; Supplier 2: Digi-Key; Supplier 2 Part Number: N/A; Supplier 3: thegioiic; Supplier 3 Part Number: N/A
footprint 653111124022
pins: 1, 2, 3, 4, 5, 6, 7, 8, 9, 10, 11

## 653111131822
designator P?, comment 1A, 125 V (AC)
WR-WTB SMT Male Horizontal Shrouded Header, pitch 1.25mm, 11p; Manufacturer: Wurth Elektronik; Manufacturer Part Number: 653111131822; Pin Number: 11; Contact Resistance: 20mOhm; Withstanding Voltage: 250VAC; Working Voltage: 125VAC; ComponentLink1Description: Datasheet; ComponentLink1URL: https://www.we-online.com/catalog/datasheet/653111131822.pdf; Pitch: 1.25mm; Packaging: Tape and Reel; Gender: Male; Type: Horizontal; Rated Current: 1A; Supplier 1 URL: N/A; Supplier 2 URL: N/A; Supplier 3 URL: N/A; Value: 1A, 125 V (AC); LCSC Part #: N/A; Mount: SMD/SMT; Operating Temperature Max: + 85 C; Operating Temperature Min: - 40 C; Package / Case: 11; Supplier 1: Mouser; Supplier 1 Part Number: N/A; Supplier 2: Digi-Key; Supplier 2 Part Number: N/A; Supplier 3: thegioiic; Supplier 3 Part Number: N/A
footprint 653111131822
pins: 1, 2, 3, 4, 5, 6, 7, 8, 9, 10, 11

## 653112124022
designator P?, comment 1A, 125 V (AC)
WR-WTB SMT Male Vertical Shrouded Header, pitch 1.25mm, 12p; Manufacturer: Wurth Elektronik; Manufacturer Part Number: 653112124022; Pin Number: 12; Contact Resistance: 20mOhm; Withstanding Voltage: 250VAC; Working Voltage: 125VAC; ComponentLink1Description: Datasheet; ComponentLink1URL: https://www.we-online.com/catalog/datasheet/653112124022.pdf; Pitch: 1.25mm; Packaging: Tape and Reel; Gender: Male; Type: Vertical; Rated Current: 1A; Supplier 1 URL: N/A; Supplier 2 URL: N/A; Supplier 3 URL: N/A; Value: 1A, 125 V (AC); LCSC Part #: N/A; Mount: SMD/SMT; Operating Temperature Max: + 85 C; Operating Temperature Min: - 40 C; Package / Case: 12; Supplier 1: Mouser; Supplier 1 Part Number: N/A; Supplier 2: Digi-Key; Supplier 2 Part Number: N/A; Supplier 3: thegioiic; Supplier 3 Part Number: N/A
footprint 653112124022
pins: 1, 2, 3, 4, 5, 6, 7, 8, 9, 10, 11, 12

## 653112131822
designator P?, comment 1A, 125 V (AC)
WR-WTB SMT Male Horizontal Shrouded Header, pitch 1.25mm, 12p; Manufacturer: Wurth Elektronik; Manufacturer Part Number: 653112131822; Pin Number: 12; Contact Resistance: 20mOhm; Withstanding Voltage: 250VAC; Working Voltage: 125VAC; ComponentLink1Description: Datasheet; ComponentLink1URL: https://www.we-online.com/catalog/datasheet/653112131822.pdf; Pitch: 1.25mm; Packaging: Tape and Reel; Gender: Male; Type: Horizontal; Rated Current: 1A; Supplier 1 URL: N/A; Supplier 2 URL: N/A; Supplier 3 URL: N/A; Value: 1A, 125 V (AC); LCSC Part #: N/A; Mount: SMD/SMT; Operating Temperature Max: + 85 C; Operating Temperature Min: - 40 C; Package / Case: 12; Supplier 1: Mouser; Supplier 1 Part Number: N/A; Supplier 2: Digi-Key; Supplier 2 Part Number: N/A; Supplier 3: thegioiic; Supplier 3 Part Number: N/A
footprint 653112131822
pins: 1, 2, 3, 4, 5, 6, 7, 8, 9, 10, 11, 12

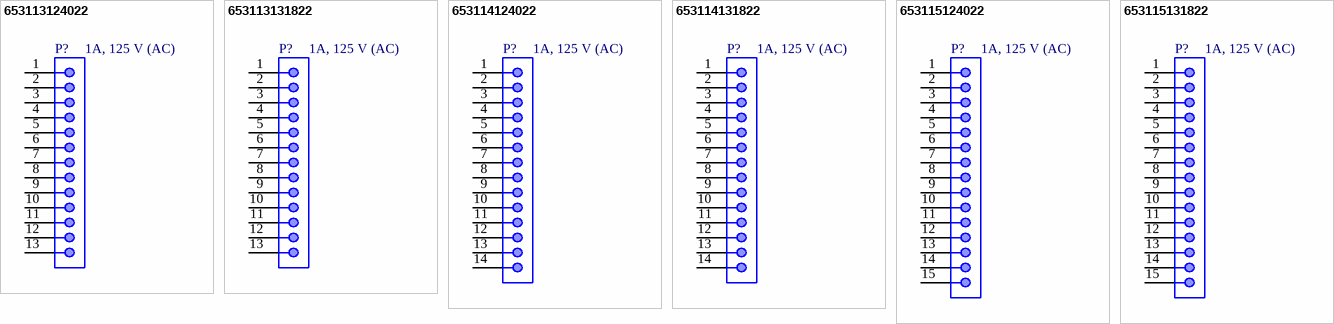
[diagram p1: symbols 653113124022 to 653115131822]

## 653113124022
designator P?, comment 1A, 125 V (AC)
WR-WTB SMT Male Vertical Shrouded Header, pitch 1.25mm, 13p; Manufacturer: Wurth Elektronik; Manufacturer Part Number: 653113124022; Pin Number: 13; Contact Resistance: 20mOhm; Withstanding Voltage: 250VAC; Working Voltage: 125VAC; ComponentLink1Description: Datasheet; ComponentLink1URL: https://www.we-online.com/catalog/datasheet/653113124022.pdf; Pitch: 1.25mm; Packaging: Tape and Reel; Gender: Male; Type: Vertical; Rated Current: 1A; Supplier 1 URL: N/A; Supplier 2 URL: N/A; Supplier 3 URL: N/A; Value: 1A, 125 V (AC); LCSC Part #: N/A; Mount: SMD/SMT; Operating Temperature Max: + 85 C; Operating Temperature Min: - 40 C; Package / Case: 13; Supplier 1: Mouser; Supplier 1 Part Number: N/A; Supplier 2: Digi-Key; Supplier 2 Part Number: N/A; Supplier 3: thegioiic; Supplier 3 Part Number: N/A
footprint 653113124022
pins: 1, 2, 3, 4, 5, 6, 7, 8, 9, 10, 11, 12, 13

## 653113131822
designator P?, comment 1A, 125 V (AC)
WR-WTB SMT Male Horizontal Shrouded Header, pitch 1.25mm, 13p; Manufacturer: Wurth Elektronik; Manufacturer Part Number: 653113131822; Pin Number: 13; Contact Resistance: 20mOhm; Withstanding Voltage: 250VAC; Working Voltage: 125VAC; ComponentLink1Description: Datasheet; ComponentLink1URL: https://www.we-online.com/catalog/datasheet/653113131822.pdf; Pitch: 1.25mm; Packaging: Tape and Reel; Gender: Male; Type: Horizontal; Rated Current: 1A; Supplier 1 URL: N/A; Supplier 2 URL: N/A; Supplier 3 URL: N/A; Value: 1A, 125 V (AC); LCSC Part #: N/A; Mount: SMD/SMT; Operating Temperature Max: + 85 C; Operating Temperature Min: - 40 C; Package / Case: 13; Supplier 1: Mouser; Supplier 1 Part Number: N/A; Supplier 2: Digi-Key; Supplier 2 Part Number: N/A; Supplier 3: thegioiic; Supplier 3 Part Number: N/A
footprint 653113131822
pins: 1, 2, 3, 4, 5, 6, 7, 8, 9, 10, 11, 12, 13

## 653114124022
designator P?, comment 1A, 125 V (AC)
WR-WTB SMT Male Vertical Shrouded Header, pitch 1.25mm, 14p; Manufacturer: Wurth Elektronik; Manufacturer Part Number: 653114124022; Pin Number: 14; Contact Resistance: 20mOhm; Withstanding Voltage: 250VAC; Working Voltage: 125VAC; ComponentLink1Description: Datasheet; ComponentLink1URL: https://www.we-online.com/catalog/datasheet/653114124022.pdf; Pitch: 1.25mm; Packaging: Tape and Reel; Gender: Male; Type: Vertical; Rated Current: 1A; Supplier 1 URL: N/A; Supplier 2 URL: N/A; Supplier 3 URL: N/A; Value: 1A, 125 V (AC); LCSC Part #: N/A; Mount: SMD/SMT; Operating Temperature Max: + 85 C; Operating Temperature Min: - 40 C; Package / Case: 14; Supplier 1: Mouser; Supplier 1 Part Number: N/A; Supplier 2: Digi-Key; Supplier 2 Part Number: N/A; Supplier 3: thegioiic; Supplier 3 Part Number: N/A
footprint 653114124022
pins: 1, 2, 3, 4, 5, 6, 7, 8, 9, 10, 11, 12, 13, 14

## 653114131822
designator P?, comment 1A, 125 V (AC)
WR-WTB SMT Male Horizontal Shrouded Header, pitch 1.25mm, 14p; Manufacturer: Wurth Elektronik; Manufacturer Part Number: 653114131822; Pin Number: 14; Contact Resistance: 20mOhm; Withstanding Voltage: 250VAC; Working Voltage: 125VAC; ComponentLink1Description: Datasheet; ComponentLink1URL: https://www.we-online.com/catalog/datasheet/653114131822.pdf; Pitch: 1.25mm; Packaging: Tape and Reel; Gender: Male; Type: Horizontal; Rated Current: 1A; Supplier 1 URL: N/A; Supplier 2 URL: N/A; Supplier 3 URL: N/A; Value: 1A, 125 V (AC); LCSC Part #: N/A; Mount: SMD/SMT; Operating Temperature Max: + 85 C; Operating Temperature Min: - 40 C; Package / Case: 14; Supplier 1: Mouser; Supplier 1 Part Number: N/A; Supplier 2: Digi-Key; Supplier 2 Part Number: N/A; Supplier 3: thegioiic; Supplier 3 Part Number: N/A
footprint 653114131822
pins: 1, 2, 3, 4, 5, 6, 7, 8, 9, 10, 11, 12, 13, 14

## 653115124022
designator P?, comment 1A, 125 V (AC)
WR-WTB SMT Male Vertical Shrouded Header, pitch 1.25mm, 15p; Manufacturer: Wurth Elektronik; Manufacturer Part Number: 653115124022; Pin Number: 15; Contact Resistance: 20mOhm; Withstanding Voltage: 250VAC; Working Voltage: 125VAC; ComponentLink1Description: Datasheet; ComponentLink1URL: https://www.we-online.com/catalog/datasheet/653115124022.pdf; Pitch: 1.25mm; Packaging: Tape and Reel; Gender: Male; Type: Vertical; Rated Current: 1A; Supplier 1 URL: N/A; Supplier 2 URL: N/A; Supplier 3 URL: N/A; Value: 1A, 125 V (AC); LCSC Part #: N/A; Mount: SMD/SMT; Operating Temperature Max: + 85 C; Operating Temperature Min: - 40 C; Package / Case: 15; Supplier 1: Mouser; Supplier 1 Part Number: N/A; Supplier 2: Digi-Key; Supplier 2 Part Number: N/A; Supplier 3: thegioiic; Supplier 3 Part Number: N/A
footprint 653115124022
pins: 1, 2, 3, 4, 5, 6, 7, 8, 9, 10, 11, 12, 13, 14, 15

## 653115131822
designator P?, comment 1A, 125 V (AC)
WR-WTB SMT Male Horizontal Shrouded Header, pitch 1.25mm, 15p; Manufacturer: Wurth Elektronik; Manufacturer Part Number: 653115131822; Pin Number: 15; Contact Resistance: 20mOhm; Withstanding Voltage: 250VAC; Working Voltage: 125VAC; ComponentLink1Description: Datasheet; ComponentLink1URL: https://www.we-online.com/catalog/datasheet/653115131822.pdf; Pitch: 1.25mm; Packaging: Tape and Reel; Gender: Male; Type: Horizontal; Rated Current: 1A; Supplier 1 URL: N/A; Supplier 2 URL: N/A; Supplier 3 URL: N/A; Value: 1A, 125 V (AC); LCSC Part #: N/A; Mount: SMD/SMT; Operating Temperature Max: + 85 C; Operating Temperature Min: - 40 C; Package / Case: 15; Supplier 1: Mouser; Supplier 1 Part Number: N/A; Supplier 2: Digi-Key; Supplier 2 Part Number: N/A; Supplier 3: thegioiic; Supplier 3 Part Number: N/A
footprint 653115131822
pins: 1, 2, 3, 4, 5, 6, 7, 8, 9, 10, 11, 12, 13, 14, 15